# Altium footprint library WL-SDCB.PcbLib: 2 footprints
Each footprint in its own frame and in the unit in brackets; x right, y up, seen from the top. Pads: shape width x height; smd on the part's side, far side on the other; paste and mask are expansions set on the pad; w line width, h text height; cw(c..) or ccw(c..) is an arc to the next point about the centre after c.
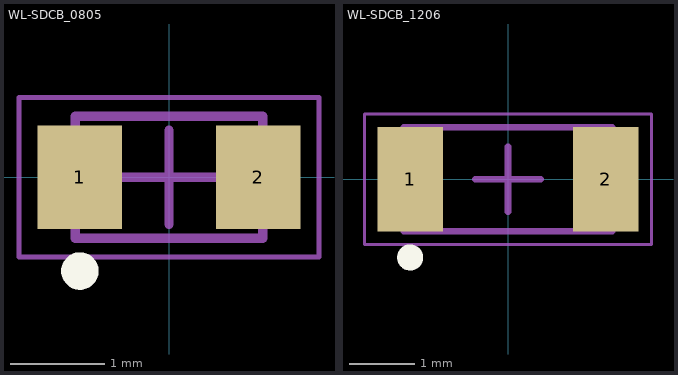
[diagram p0: the footprints below, top view; thin cyan lines are the x and y axes]

## WL-SDCB_0805 [mm] "SMT Photodiode Chip Black, body 2x1.3mm"
height 0.8
pads (2):
  rect 0.9x1.1 smd: 1(-0.95,0) 2(0.95,0)
Top Overlay:
  circle w0.2: c-0.95,-1 r0.1
Top Assembly:
  circle w0.1: c-0.7,-0.35 r0.1
  lines w0.1: -1,-0.65 -1,0.65 1,0.65 1,-0.65 -1,-0.65
Top Designator:
  text ".Designator" at -3.647,-0.357 h1
Top 3D Body:
  circle w0.1: c-0.7,-0.35 r0.1
  lines w0.1: -1,-0.65 1,-0.65 1,0.65 -1,0.65 -1,-0.65
Top Courtyard:
  lines w0.05: -1.6,-0.85 -1.6,0.85 1.6,0.85 1.6,-0.85 -1.6,-0.85
Top Component Center:
  lines w0.1: -0.5,0 0.5,0 ; 0,-0.5 0,0.5
3D body "1540801EEA300.stp": height 0.8, standoff 0, extent -1,-0.65 1,0.65

## WL-SDCB_1206 [mm] "SMT Photodiode Chip Black, body 3.2x1.6mm"
height 1.1
pads (2):
  rect 1x1.6 smd: 1(-1.5,0) 2(1.5,0)
Top Overlay:
  circle w0.2: c-1.5,-1.2 r0.1
Top Assembly:
  circle w0.1: c-1.3,-0.5 r0.1
  lines w0.1: -1.6,-0.8 1.6,-0.8 1.6,0.8 -1.6,0.8 -1.6,-0.8
Top Designator:
  text ".Designator" at -3.999,-0.267 h1
Top 3D Body:
  circle w0.1: c-1.3,-0.5 r0.1
  lines w0.1: -1.6,-0.8 -1.6,0.8 1.6,0.8 1.6,-0.8 -1.6,-0.8
Top Courtyard:
  lines w0.05: -2.2,-1 2.2,-1 2.2,1 -2.2,1 -2.2,-1
Top Component Center:
  lines w0.1: -0.5,0 0.5,0 ; 0,-0.5 0,0.5
3D body "1541201EEA400.stp": height 1.1, standoff 0, extent -1.6,-0.802 1.6,0.798